# Altium schematic symbol library IC_TXS02612RTWR_SD_Level_Shifter.SchLib: 1 symbol
Pins are listed as number, name and electrical type; pins without a type are passive.

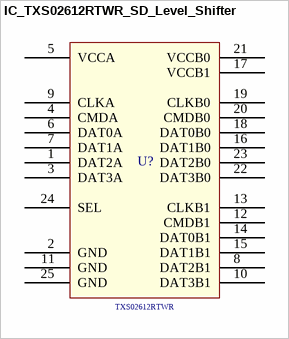
[diagram p0: symbol IC_TXS02612RTWR_SD_Level_Shifter]

## IC_TXS02612RTWR_SD_Level_Shifter
designator U?  Series: TXS02612RTWR  (hidden comment: IC_TXS02612RTWR_SD_Level_Shifter)
Interface - I/O Expanders SDIO Port Expander; Supplier Part Number 1: 595-TXS02612RTWR; Supplier 1: Mouser
footprint IC_TXS02612RTWR_SD_Level_Shifter
pins: 1 DAT2A, 2 GND, 3 DAT3A, 4 CMDA, 5 VCCA, 6 DAT0A, 7 DAT1A, 8 DAT2B1, 9 CLKA, 10 DAT3B1, 11 GND, 12 CMDB1, 13 CLKB1, 14 DAT0B1, 15 DAT1B1, 16 DAT1B0, 17 VCCB1, 18 DAT0B0, 19 CLKB0, 20 CMDB0, 21 VCCB0, 22 DAT3B0, 23 DAT2B0, 24 SEL, 25 GND